# EAGLE library part TP4056 (library FansElectronics-Modul)
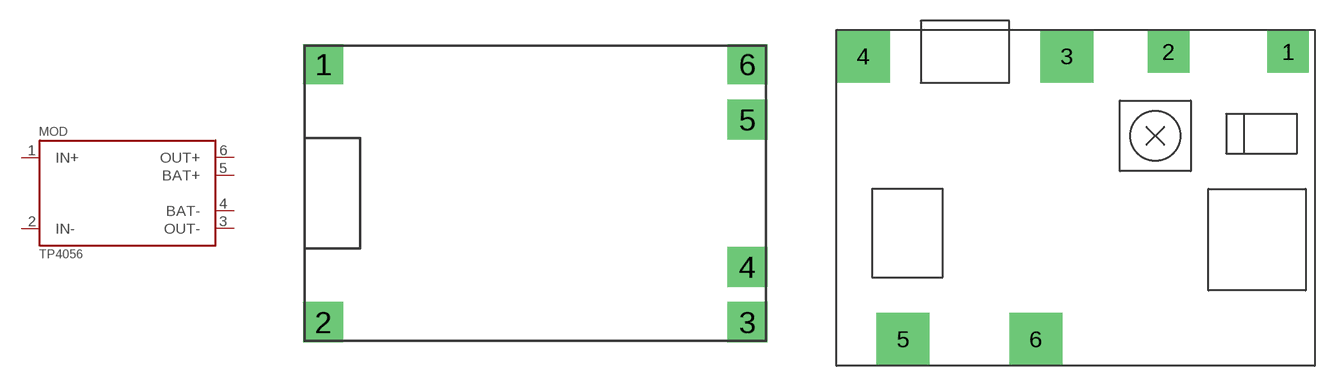
[diagram p13: symbol with the pads of TP4056; footprints TP4056, TP4056-STEPUP]

Designator prefix MOD

## TP4056"  [TP4056]
1  IN+
2  IN-
3  OUT-
4  BAT-
5  BAT+
6  OUT+

## TP4056STEPUP  [TP4056-STEPUP]
1  OUT+
2  OUT-
3  IN+
4  IN-
5  BAT-
6  BAT+

## Footprint TP4056 (pad centres in mm)
drill 1 pad 2.184 square: 1 -11,7; 2 -11,-7; 3 12,-7; 4 12,-4; 5 12,4; 6 12,7

## Footprint TP4056-STEPUP (pad centres in mm)
drill 2 pad 3 square: 1 14.605,9.842; 2 6.032,9.842
drill 2 pad 3.81 square: 3 -1.27,9.525; 4 -15.875,9.525; 5 -13.018,-10.795; 6 -3.493,-10.795